# Altium schematic symbol library Conectors_THC.SchLib: 2 symbols
Pins are listed as number, name and electrical type; pins without a type are passive.

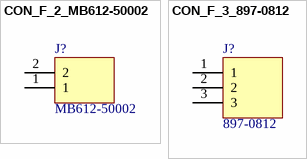
[diagram p0: symbols CON_F_2_MB612-50002 to CON_F_3_897-0812]

## CON_F_2_MB612-50002
designator J?  MPN: MB612-50002  (hidden comment: *)
footprint CON_2_5mm
pins: 1, 2

## CON_F_3_897-0812
designator J?  MPN: 897-0812  (hidden comment: *)
footprint CON_3_5mm
pins: 1, 2, 3